# Altium schematic symbol library BC417143.SchLib: 1 symbol
Pins are listed as number, name and electrical type; pins without a type are passive.

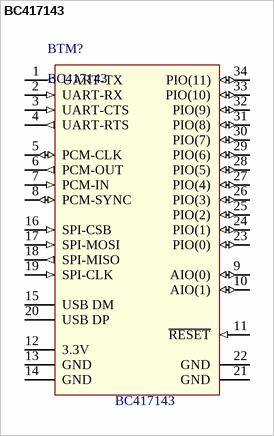
[diagram p0: symbol BC417143]

## BC417143
designator BTM?
Value: BC417143
footprint BC417143
pins: 1 UART-TX (out), 2 UART-RX (in), 3 UART-CTS (in), 4 UART-RTS (out), 5 PCM-CLK (io), 6 PCM-OUT (out), 7 PCM-IN (in), 8 PCM-SYNC (io), 9 AIO(0) (io), 10 AIO(1) (io), 11 ~{RESET} (in), 12 3.3V (power), 13 GND, 14 GND, 15 USB DM, 16 SPI-CSB (in), 17 SPI-MOSI (in), 18 SPI-MISO (out), 19 SPI-CLK (in), 20 USB DP, 21 GND (power), 22 GND (power), 23 PIO(0) (io), 24 PIO(1) (io), 25 PIO(2) (io), 26 PIO(3) (io), 27 PIO(4) (io), 28 PIO(5) (io), 29 PIO(6) (io), 30 PIO(7) (io), 31 PIO(8) (io), 32 PIO(9) (io), 33 PIO(10) (io), 34 PIO(11) (io)